# EAGLE library part STM32F103XE (library Pygmy)
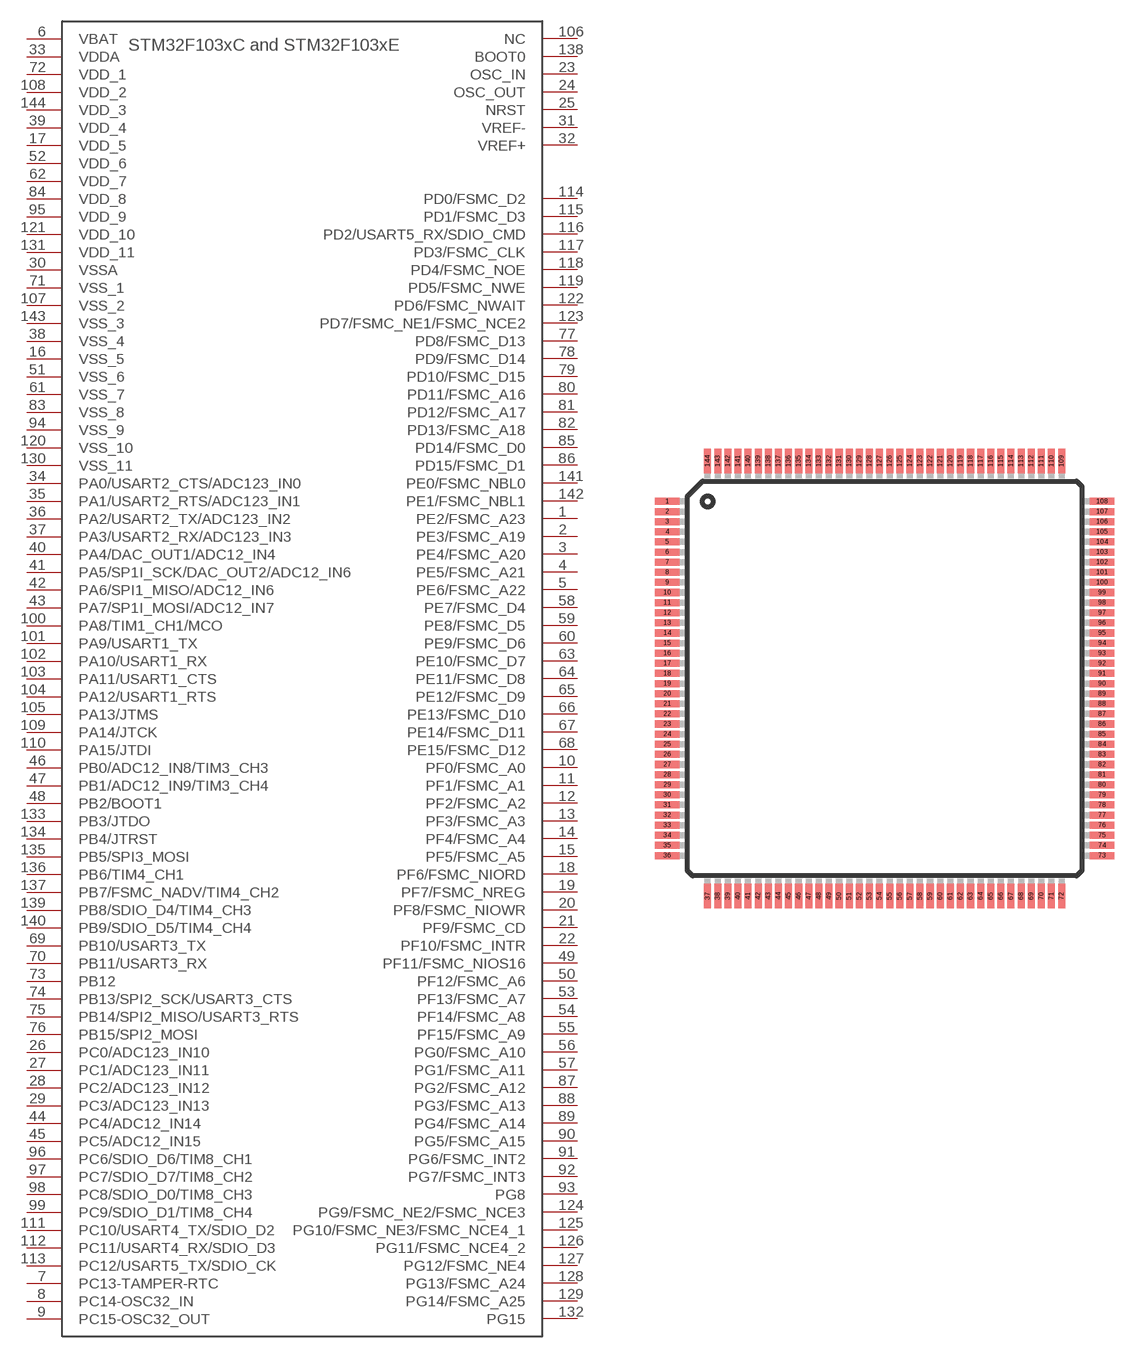
[diagram p30: symbol with the pads of PQFP144; footprint PQFP144]

Designator prefix -

## STM32F103XE  [PQFP144]
1  PE2/FSMC_A23
2  PE3/FSMC_A19
3  PE4/FSMC_A20
4  PE5/FSMC_A21
5  PE6/FSMC_A22
6  VBAT
7  PC13-TAMPER-RTC
8  PC14-OSC32_IN
9  PC15-OSC32_OUT
10  PF0/FSMC_A0
11  PF1/FSMC_A1
12  PF2/FSMC_A2
13  PF3/FSMC_A3
14  PF4/FSMC_A4
15  PF5/FSMC_A5
16  VSS_5
17  VDD_5
18  PF6/FSMC_NIORD
19  PF7/FSMC_NREG
20  PF8/FSMC_NIOWR
21  PF9/FSMC_CD
22  PF10/FSMC_INTR
23  OSC_IN
24  OSC_OUT
25  NRST
26  PC0/ADC123_IN10
27  PC1/ADC123_IN11
28  PC2/ADC123_IN12
29  PC3/ADC123_IN13
30  VSSA
31  VREF-
32  VREF+
33  VDDA
34  PA0/USART2_CTS/ADC123_IN0
35  PA1/USART2_RTS/ADC123_IN1
36  PA2/USART2_TX/ADC123_IN2
37  PA3/USART2_RX/ADC123_IN3
38  VSS_4
39  VDD_4
40  PA4/DAC_OUT1/ADC12_IN4
41  PA5/SP1I_SCK/DAC_OUT2/ADC12_IN6
42  PA6/SPI1_MISO/ADC12_IN6
43  PA7/SP1I_MOSI/ADC12_IN7
44  PC4/ADC12_IN14
45  PC5/ADC12_IN15
46  PB0/ADC12_IN8/TIM3_CH3
47  PB1/ADC12_IN9/TIM3_CH4
48  PB2/BOOT1
49  PF11/FSMC_NIOS16
50  PF12/FSMC_A6
51  VSS_6
52  VDD_6
53  PF13/FSMC_A7
54  PF14/FSMC_A8
55  PF15/FSMC_A9
56  PG0/FSMC_A10
57  PG1/FSMC_A11
58  PE7/FSMC_D4
59  PE8/FSMC_D5
60  PE9/FSMC_D6
61  VSS_7
62  VDD_7
63  PE10/FSMC_D7
64  PE11/FSMC_D8
65  PE12/FSMC_D9
66  PE13/FSMC_D10
67  PE14/FSMC_D11
68  PE15/FSMC_D12
69  PB10/USART3_TX
70  PB11/USART3_RX
71  VSS_1
72  VDD_1
73  PB12
74  PB13/SPI2_SCK/USART3_CTS
75  PB14/SPI2_MISO/USART3_RTS
76  PB15/SPI2_MOSI
77  PD8/FSMC_D13
78  PD9/FSMC_D14
79  PD10/FSMC_D15
80  PD11/FSMC_A16
81  PD12/FSMC_A17
82  PD13/FSMC_A18
83  VSS_8
84  VDD_8
85  PD14/FSMC_D0
86  PD15/FSMC_D1
87  PG2/FSMC_A12
88  PG3/FSMC_A13
89  PG4/FSMC_A14
90  PG5/FSMC_A15
91  PG6/FSMC_INT2
92  PG7/FSMC_INT3
93  PG8
94  VSS_9
95  VDD_9
96  PC6/SDIO_D6/TIM8_CH1
97  PC7/SDIO_D7/TIM8_CH2
98  PC8/SDIO_D0/TIM8_CH3
99  PC9/SDIO_D1/TIM8_CH4
100  PA8/TIM1_CH1/MCO
101  PA9/USART1_TX
102  PA10/USART1_RX
103  PA11/USART1_CTS
104  PA12/USART1_RTS
105  PA13/JTMS
106  NC
107  VSS_2
108  VDD_2
109  PA14/JTCK
110  PA15/JTDI
111  PC10/USART4_TX/SDIO_D2
112  PC11/USART4_RX/SDIO_D3
113  PC12/USART5_TX/SDIO_CK
114  PD0/FSMC_D2
115  PD1/FSMC_D3
116  PD2/USART5_RX/SDIO_CMD
117  PD3/FSMC_CLK
118  PD4/FSMC_NOE
119  PD5/FSMC_NWE
120  VSS_10
121  VDD_10
122  PD6/FSMC_NWAIT
123  PD7/FSMC_NE1/FSMC_NCE2
124  PG9/FSMC_NE2/FSMC_NCE3
125  PG10/FSMC_NE3/FSMC_NCE4_1
126  PG11/FSMC_NCE4_2
127  PG12/FSMC_NE4
128  PG13/FSMC_A24
129  PG14/FSMC_A25
130  VSS_11
131  VDD_11
132  PG15
133  PB3/JTDO
134  PB4/JTRST
135  PB5/SPI3_MOSI
136  PB6/TIM4_CH1
137  PB7/FSMC_NADV/TIM4_CH2
138  BOOT0
139  PB8/SDIO_D4/TIM4_CH3
140  PB9/SDIO_D5/TIM4_CH4
141  PE0/FSMC_NBL0
142  PE1/FSMC_NBL1
143  VSS_3
144  VDD_3

## Footprint PQFP144 (pad centres in mm)
Plastic Quad Flat Pack
smd 1.2 x 0.35: 1 -10.75,8.75; 2 -10.75,8.25; 3 -10.75,7.75; 4 -10.75,7.25; 5 -10.75,6.75; 6 -10.75,6.25; 7 -10.75,5.75; 8 -10.75,5.25; 9 -10.75,4.75; 10 -10.75,4.25; 11 -10.75,3.75; 12 -10.75,3.25; 13 -10.75,2.75; 14 -10.75,2.25; 15 -10.75,1.75; 16 -10.75,1.25; 17 -10.75,0.75; 18 -10.75,0.25; 19 -10.75,-0.25; 20 -10.75,-0.75; 21 -10.75,-1.25; 22 -10.75,-1.75; 23 -10.75,-2.25; 24 -10.75,-2.75; 25 -10.75,-3.25; 26 -10.75,-3.75; 27 -10.75,-4.25; 28 -10.75,-4.75; 29 -10.75,-5.25; 30 -10.75,-5.75; 31 -10.75,-6.25; 32 -10.75,-6.75; 33 -10.75,-7.25; 34 -10.75,-7.75; 35 -10.75,-8.25; 36 -10.75,-8.75; 73 10.75,-8.75; 74 10.75,-8.25; 75 10.75,-7.75; 76 10.75,-7.25; 77 10.75,-6.75; 78 10.75,-6.25; 79 10.75,-5.75; 80 10.75,-5.25; 81 10.75,-4.75; 82 10.75,-4.25; 83 10.75,-3.75; 84 10.75,-3.25; 85 10.75,-2.75; 86 10.75,-2.25; 87 10.75,-1.75; 88 10.75,-1.25; 89 10.75,-0.75; 90 10.75,-0.25; 91 10.75,0.25; 92 10.75,0.75; 93 10.75,1.25; 94 10.75,1.75; 95 10.75,2.25; 96 10.75,2.75; 97 10.75,3.25; 98 10.75,3.75; 99 10.75,4.25; 100 10.75,4.75; 101 10.75,5.25; 102 10.75,5.75; 103 10.75,6.25; 104 10.75,6.75; 105 10.75,7.25; 106 10.75,7.75; 107 10.75,8.25; 108 10.75,8.75
smd 0.35 x 1.2: 37 -8.75,-10.75; 38 -8.25,-10.75; 39 -7.75,-10.75; 40 -7.25,-10.75; 41 -6.75,-10.75; 42 -6.25,-10.75; 43 -5.75,-10.75; 44 -5.25,-10.75; 45 -4.75,-10.75; 46 -4.25,-10.75; 47 -3.75,-10.75; 48 -3.25,-10.75; 49 -2.75,-10.75; 50 -2.25,-10.75; 51 -1.75,-10.75; 52 -1.25,-10.75; 53 -0.75,-10.75; 54 -0.25,-10.75; 55 0.25,-10.75; 56 0.75,-10.75; 57 1.25,-10.75; 58 1.75,-10.75; 59 2.25,-10.75; 60 2.75,-10.75; 61 3.25,-10.75; 62 3.75,-10.75; 63 4.25,-10.75; 64 4.75,-10.75; 65 5.25,-10.75; 66 5.75,-10.75; 67 6.25,-10.75; 68 6.75,-10.75; 69 7.25,-10.75; 70 7.75,-10.75; 71 8.25,-10.75; 72 8.75,-10.75; 109 8.75,10.75; 110 8.25,10.75; 111 7.75,10.75; 112 7.25,10.75; 113 6.75,10.75; 114 6.25,10.75; 115 5.75,10.75; 116 5.25,10.75; 117 4.75,10.75; 118 4.25,10.75; 119 3.75,10.75; 120 3.25,10.75; 121 2.75,10.75; 122 2.25,10.75; 123 1.75,10.75; 124 1.25,10.75; 125 0.75,10.75; 126 0.25,10.75; 127 -0.25,10.75; 128 -0.75,10.75; 129 -1.25,10.75; 130 -1.75,10.75; 131 -2.25,10.75; 132 -2.75,10.75; 133 -3.25,10.75; 134 -3.75,10.75; 135 -4.25,10.75; 136 -4.75,10.75; 137 -5.25,10.75; 138 -5.75,10.75; 139 -6.25,10.75; 140 -6.75,10.75; 141 -7.25,10.75; 142 -7.75,10.75; 143 -8.25,10.75; 144 -8.75,10.75